# Altium schematic symbol library STB14NM50N.Schlib: 1 symbol
Pins are listed as number, name and electrical type; pins without a type are passive.

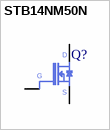
[diagram p0: symbol STB14NM50N]

## STB14NM50N
designator Q?  (value not drawn)
pins: 1 G, 3 S, 4 D